# EAGLE library part 5-25VA (library trafo-amveco)
5 through 25 VA toroidal PC-mount transformer Combined footprint for any of the Amveco 70000 series transformers with 5-25 VA ratings
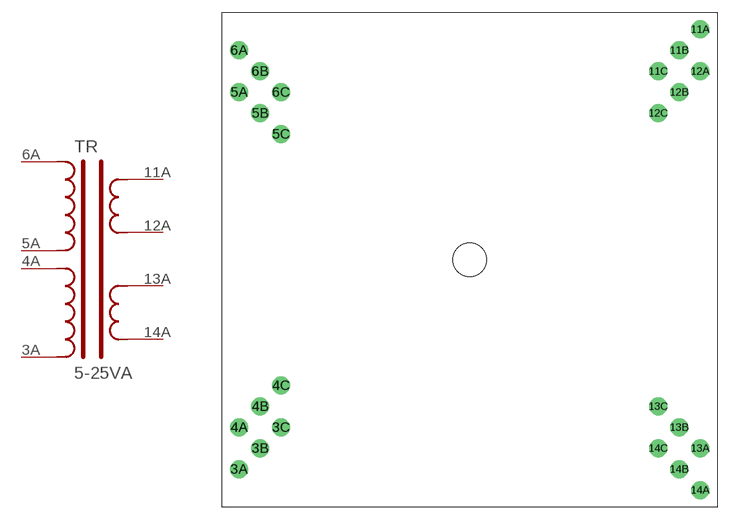
[diagram p4: symbol with the pads of 5_25VA-PC; footprint 5_25VA-PC]

Designator prefix TR

## 5-25VA  [5_25VA-PC]
3A  3  pas
4A  4  pas
5A  5  pas
6A  6  pas
11A  11  pas
12A  12  pas
13A  13  pas
14A  14  pas

## Footprint 5_25VA-PC (pad centres in mm)
AMVECO (a.k.a Talema) 5-25 VA PC-mount encapsulated toroidal transformer Combined footprint fits any part in the AMVECO 70000 series with a 5 to 25 VA rating.
drill 1.143 pad 2.159 round: 3A -27.94,-25.4; 3B -25.4,-22.86; 3C -22.86,-20.32; 4A -27.94,-20.32; 4B -25.4,-17.78; 4C -22.86,-15.24; 5A -27.94,20.32; 5B -25.4,17.78; 5C -22.86,15.24; 6A -27.94,25.4; 6B -25.4,22.86; 6C -22.86,20.32; 11A 27.94,27.94; 11B 25.4,25.4; 11C 22.86,22.86; 12A 27.94,22.86; 12B 25.4,20.32; 12C 22.86,17.78; 13A 27.94,-22.86; 13B 25.4,-20.32; 13C 22.86,-17.78; 14A 27.94,-27.94; 14B 25.4,-25.4; 14C 22.86,-22.86
hole 4.064 at 0,0